# Altium footprint library 05E_Miscellaneous.PcbLib: 1 footprints
Each footprint in its own frame and in the unit in brackets; x right, y up, seen from the top. Pads: shape width x height; smd on the part's side, far side on the other; paste and mask are expansions set on the pad; w line width, h text height; cw(c..) or ccw(c..) is an arc to the next point about the centre after c.
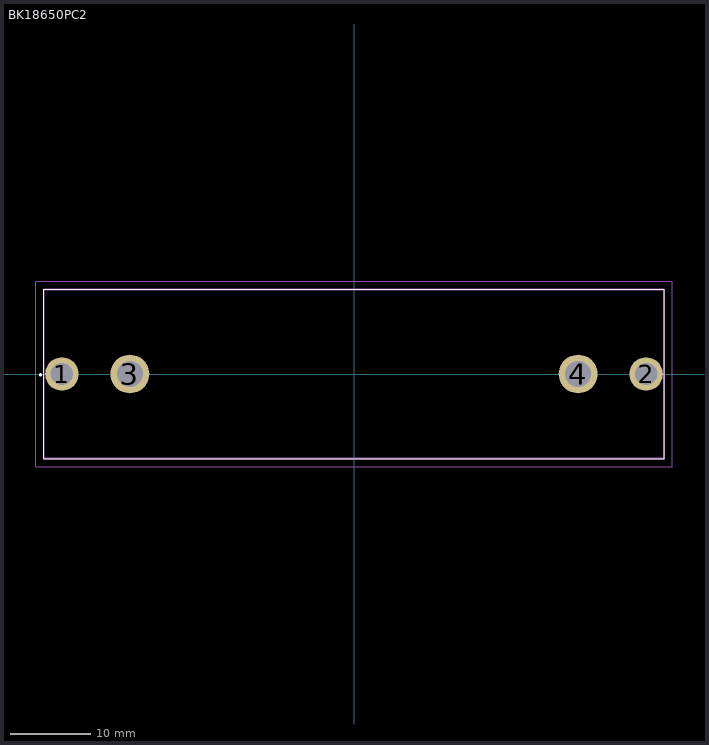
[diagram p0: the footprint, top view; thin cyan lines are the x and y axes]

## BK18650PC2 [mm]
pads (4):
  round 4.153 hole 2.769: 1(-36.25,0) 2(36.25,0)
  round 4.8 hole 3.2: 3(-27.805,0) 4(27.805,0)
Top Overlay:
  lines w0.1: -38.48,-10.49 -38.48,10.49 38.48,10.49 38.48,-10.49 -38.48,-10.49
  lines w0.2: -38.9,-0.2 cw(c-38.9,-0.1) -38.9,0 cw(c-38.9,-0.1) -38.9,-0.2
Mechanical 15:
  lines w0.2: -38.48,-10.49 -38.48,10.49 38.48,10.49 38.48,-10.49 -38.48,-10.49
Mechanical 20:
  lines w0.1: -39.48,-11.49 -39.48,11.49 39.48,11.49 39.48,-11.49 -39.48,-11.49
3D body "BK-18650-PC2.stp": height 21.1, standoff -5, extent -38.48,-10.49 38.48,10.49